# Altium schematic symbol library SCH - RF - FILTER - MINICIRCUITS LFCN-490.SCHLIB: 1 symbol
Pins are listed as number, name and electrical type; pins without a type are passive.

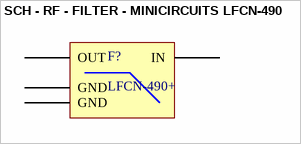
[diagram p0: symbol SCH - RF - FILTER - MINICIRCUITS LFCN-490]

## SCH - RF - FILTER - MINICIRCUITS LFCN-490
designator F?, comment LFCN-490+
490MHz Low Pass Filter
pins: 1 IN "Desc1", 2 GND "Desc1", 3 OUT "Desc1", 4 GND "Desc1"